# Altium schematic symbol library B43548A5127M060.SchLib: 1 symbol
Pins are listed as number, name and electrical type; pins without a type are passive.

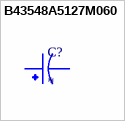
[diagram p0: symbol B43548A5127M060]

## B43548A5127M060
designator C?
120 ÂµF 450 V Aluminum Electrolytic Capacitors Radial, Can - Snap-In 680mOhm @ 100Hz 3000 Hrs @ 105Â°C  Ø25 × 30 mm  pitch 10 mm; MF: TDK Electronics; MP: B43548A5127M060; SnapEDA_Link: https://www.snapeda.com/parts/B43548A5127M060/TDK/view-part/?ref=snap; Package: None; Value: *; Check_prices: https://www.snapeda.com/parts/B43548A5127M060/TDK/view-part/?ref=eda
footprint CAP_B43548A5127M060
pins: 1, 2